# Altium footprint library BioZ.PcbLib: 32 footprints (part 2 of 2)
Each footprint in its own frame and in the unit in brackets; x right, y up, seen from the top. Pads: shape width x height; smd on the part's side, far side on the other; paste and mask are expansions set on the pad; w line width, h text height; cw(c..) or ccw(c..) is an arc to the next point about the centre after c.
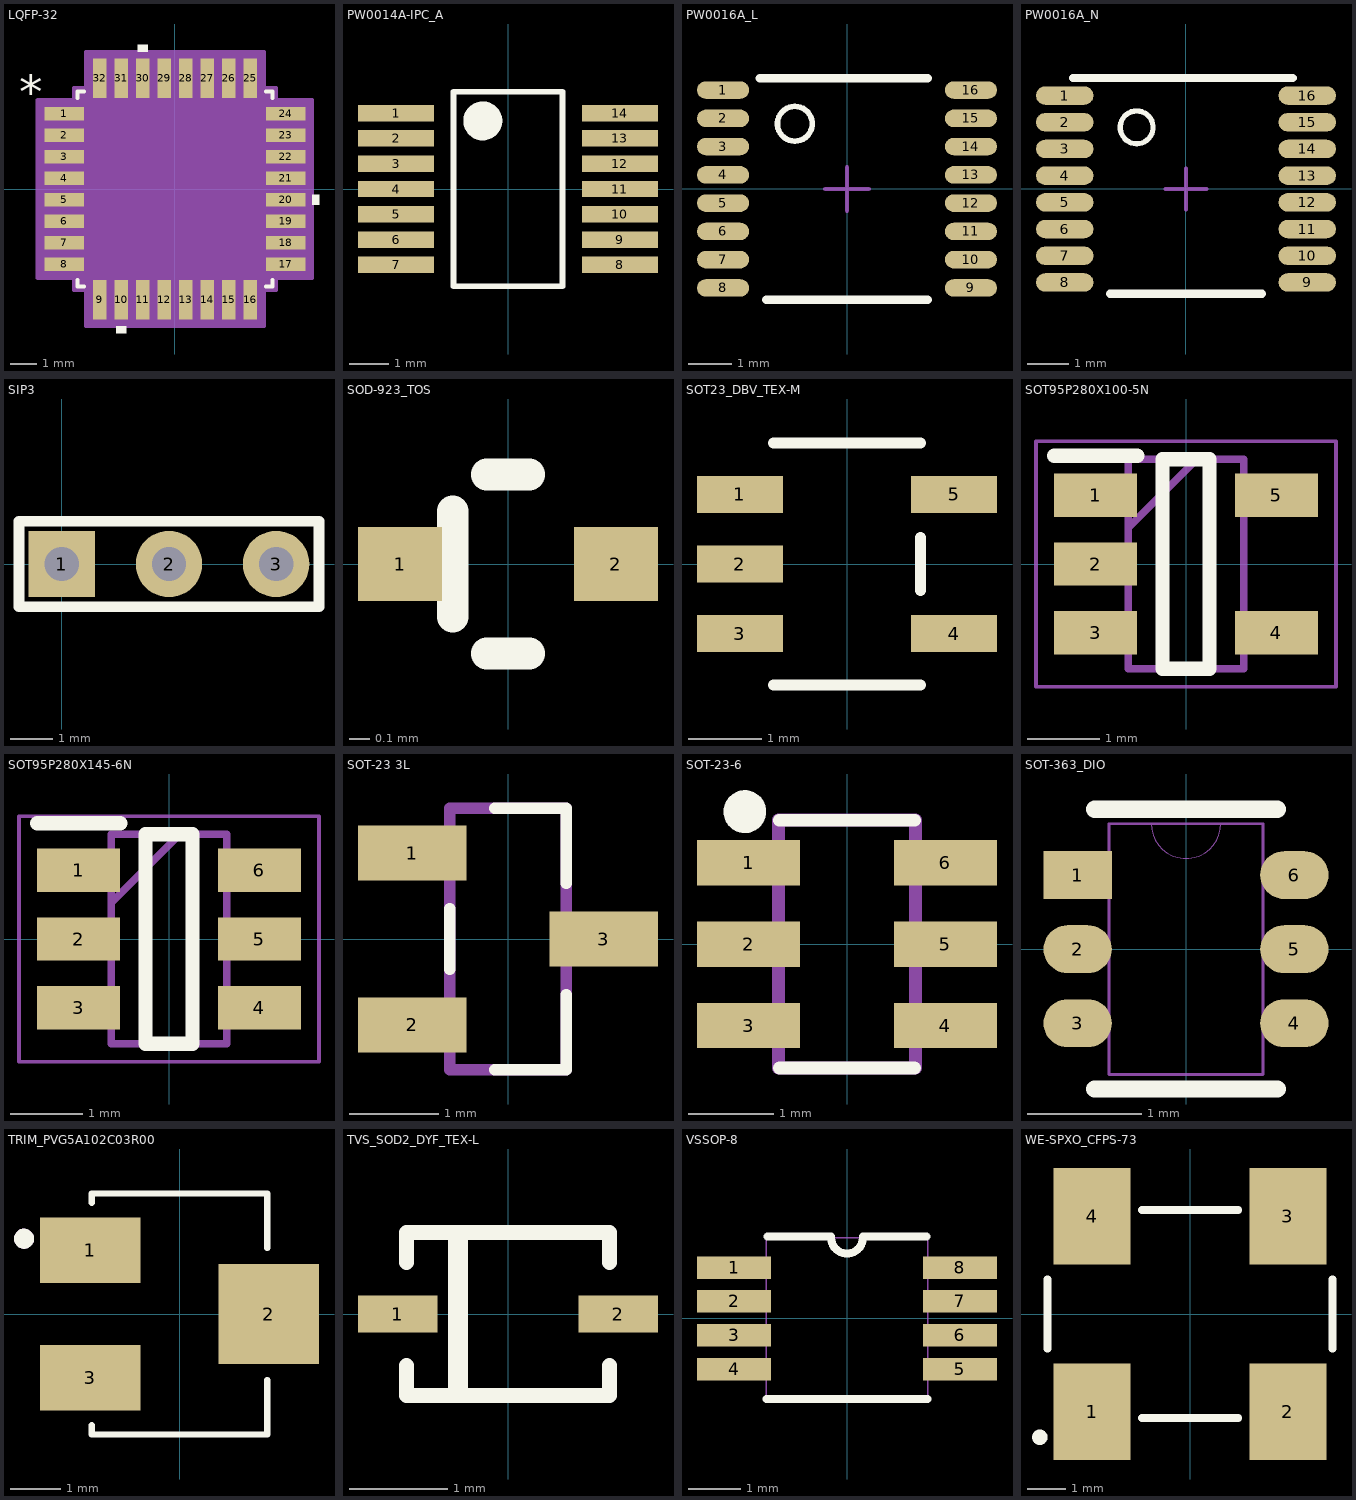
[diagram p1: the footprints below, top view; thin cyan lines are the x and y axes]

## LQFP-32 [mil]
pads (32):
  rect 58x20 smd paste+0 mask+0: 1(-162,110.24) 2(-162,78.74) 3(-162,47.24) 4(-162,15.75) 5(-162,-15.75) 6(-162,-47.24) 7(-162,-78.74) 8(-162,-110.24) 17(162,-110.24) 18(162,-78.74) 19(162,-47.24) 20(162,-15.75) 21(162,15.75) 22(162,47.24) 23(162,78.74) 24(162,110.24)
  rect 20x58 smd paste+0 mask+0: 9(-110.24,-162) 10(-78.74,-162) 11(-47.24,-162) 12(-15.75,-162) 13(15.75,-162) 14(47.24,-162) 15(78.74,-162) 16(110.24,-162) 25(110.24,162) 26(78.74,162) 27(47.24,162) 28(15.75,162) 29(-15.75,162) 30(-47.24,162) 31(-78.74,162) 32(-110.24,162)
Top Overlay:
  region: -39.74,201 -54.74,201 -54.74,211 -39.74,211
  region: 201,-8.25 211,-8.25 211,-23.25 201,-23.25
  region: -71.24,-201 -86.24,-201 -86.24,-211 -71.24,-211
  lines w6: -143,-133.34 -143,-143 -133.34,-143 ; -143,133.34 -143,143 -133.34,143 ; 133.34,-143 143,-143 143,-133.34 ; 133.34,143 143,143 143,133.34
  text ".Designator" at -137.5,-25 h50
  text "*" at -228.5,115.98 h50
Mechanical 13:
  lines w1: -138,88 -88,138 ; -177,-119.24 -138,-119.24 -138,-101.24 -177,-101.24 -177,-119.24 ; -177,-87.74 -138,-87.74 -138,-69.74 -177,-69.74 -177,-87.74 ; -177,-56.24 -138,-56.24 -138,-38.24 -177,-38.24 -177,-56.24 ; -177,-24.75 -138,-24.75 -138,-6.75 -177,-6.75 -177,-24.75 ; -177,6.75 -138,6.75 -138,24.75 -177,24.75 -177,6.75 ; -177,38.24 -138,38.24 -138,56.24 -177,56.24 -177,38.24 ; -177,69.74 -138,69.74 -138,87.74 -177,87.74 -177,69.74 ; -177,101.24 -138,101.24 -138,119.24 -177,119.24 -177,101.24 ; -138,-138 -138,138 138,138 138,-138 -138,-138 ; -119.24,-177 -101.24,-177 -101.24,-138 -119.24,-138 -119.24,-177 ; -119.24,138 -119.24,177 -101.24,177 -101.24,138 -119.24,138 ; -87.74,-177 -69.74,-177 -69.74,-138 -87.74,-138 -87.74,-177 ; -87.74,138 -87.74,177 -69.74,177 -69.74,138 -87.74,138 ; -56.24,-177 -38.24,-177 -38.24,-138 -56.24,-138 -56.24,-177 ; -56.24,138 -56.24,177 -38.24,177 -38.24,138 -56.24,138 ; -24.75,-177 -6.75,-177 -6.75,-138 -24.75,-138 -24.75,-177 ; -24.75,138 -24.75,177 -6.75,177 -6.75,138 -24.75,138 ; 6.75,-177 24.75,-177 24.75,-138 6.75,-138 6.75,-177 ; 6.75,138 6.75,177 24.75,177 24.75,138 6.75,138 ; 38.24,-177 56.24,-177 56.24,-138 38.24,-138 38.24,-177 ; 38.24,138 38.24,177 56.24,177 56.24,138 38.24,138 ; 69.74,-177 87.74,-177 87.74,-138 69.74,-138 69.74,-177 ; 69.74,138 69.74,177 87.74,177 87.74,138 69.74,138 ; 101.24,-177 119.24,-177 119.24,-138 101.24,-138 101.24,-177 ; 101.24,138 101.24,177 119.24,177 119.24,138 101.24,138 ; 138,-119.24 177,-119.24 177,-101.24 138,-101.24 138,-119.24 ; 138,-87.74 177,-87.74 177,-69.74 138,-69.74 138,-87.74 ; 138,-56.24 177,-56.24 177,-38.24 138,-38.24 138,-56.24 ; 138,-24.75 177,-24.75 177,-6.75 138,-6.75 138,-24.75 ; 138,6.75 177,6.75 177,24.75 138,24.75 138,6.75 ; 138,38.24 177,38.24 177,56.24 138,56.24 138,38.24 ; 138,69.74 177,69.74 177,87.74 138,87.74 138,69.74 ; 138,101.24 177,101.24 177,119.24 138,119.24 138,101.24
  text "*" at -135.5,100.98 h50
  text ".Designator" at -137.5,-25 h50
Mechanical 15:
  region: -130.24,-148 -148,-148 -148,-130.24 -201,-130.24 -201,130.24 -148,130.24 -148,148 -130.24,148 -130.24,201 130.24,201 130.24,148 148,148 148,130.24 201,130.24 201,-130.24 148,-130.24 148,-148 130.24,-148 130.24,-201 -130.24,-201
  lines w6: -201,-130.24 -201,130.24 -148,130.24 -148,148 -130.24,148 -130.24,201 130.24,201 130.24,148 148,148 148,130.24 201,130.24 201,-130.24 148,-130.24 148,-148 130.24,-148 130.24,-201 -130.24,-201 -130.24,-148 -148,-148 -148,-130.24 -201,-130.24
3D body "LQFP-32.step": height 63.11, standoff 0, extent -177.01,-177.01 177.01,177.01

## PW0014A-IPC_A [mm]
pads (14):
  rect 1.955x0.421 smd paste+0 mask+0: 1(-2.875,1.95) 2(-2.875,1.3) 3(-2.875,0.65) 4(-2.875,0) 5(-2.875,-0.65) 6(-2.875,-1.3) 7(-2.875,-1.95) 8(2.875,-1.95) 9(2.875,-1.3) 10(2.875,-0.65) 11(2.875,0) 12(2.875,0.65) 13(2.875,1.3) 14(2.875,1.95)
Top Overlay:
  circle w0.5: c-0.648,1.75 r0.25
  lines w0.15: -1.398,-2.5 -1.398,2.5 1.398,2.5 1.398,-2.5 -1.398,-2.5
3D body "PW0014A.stp": height 1.13, standoff 0, extent -3.2,-2.5 3.2,2.5

## PW0016A_L [mm]
pads (16):
  oval 1.2x0.4 smd paste+0 mask+0.051: 1(-2.85,2.275) 2(-2.85,1.625) 3(-2.85,0.975) 4(-2.85,0.325) 5(-2.85,-0.325) 6(-2.85,-0.975) 7(-2.85,-1.625) 8(-2.85,-2.275) 9(2.85,-2.275) 10(2.85,-1.625) 11(2.85,-0.975) 12(2.85,-0.325) 13(2.85,0.325) 14(2.85,0.975) 15(2.85,1.625) 16(2.85,2.275)
Top Overlay:
  lines w0.127: -1.2,1.1 cw(c-1.2,1.5) -1.2,1.9 cw(c-1.2,1.5) -1.2,1.1
  lines w0.2: -2,2.55 1.85,2.55 ; -1.85,-2.55 1.85,-2.55
Mechanical 15:
  lines w0.1: -0.5,0 0.5,0 ; 0,-0.5 0,0.5
3D body "PW0016A.stp": height 1.13, standoff 0, extent -3.2,-2.5 3.2,2.5

## PW0016A_N [mm]
pads (16):
  oval 1.4x0.45 smd paste+0 mask+0.051: 1(-2.95,2.275) 2(-2.95,1.625) 3(-2.95,0.975) 4(-2.95,0.325) 5(-2.95,-0.325) 6(-2.95,-0.975) 7(-2.95,-1.625) 8(-2.95,-2.275) 9(2.95,-2.275) 10(2.95,-1.625) 11(2.95,-0.975) 12(2.95,-0.325) 13(2.95,0.325) 14(2.95,0.975) 15(2.95,1.625) 16(2.95,2.275)
Top Overlay:
  lines w0.127: -1.2,1.1 ccw(c-1.2,1.5) -1.2,1.9 ccw(c-1.2,1.5) -1.2,1.1
  lines w0.2: -2.75,2.7 2.6,2.7 ; -1.85,-2.55 1.85,-2.55
Mechanical 15:
  lines w0.1: -0.5,0 0.5,0 ; 0,-0.5 0,0.5
3D body "PW0016A.stp": height 1.13, standoff 0, extent -3.2,-2.5 3.2,2.5

## SIP3 [mil]
pads (3):
  rect 62x62 hole 32: 1(0,0)
  round 62 hole 32: 2(100,0) 3(200,0)
Top Overlay:
  lines w10: -40,-40 240,-40 240,-20 240,20 240,40 -40,40 -40,-40
3D body "68001-203HLF.STEP": height 329.92, standoff -120.08, extent -50,-47.44 250,47.44

## SOD-923_TOS [mil]
pads (2):
  rect 16x14 smd paste+0 mask+0: 1(-20.5,0) 2(20.5,0)
Top Overlay:
  lines w6: -10.5,-10 -10.5,10.04 ; -4.04,-17 4.04,-17 ; -4.04,17 4.04,17
3D body "SOD-923-ZKN_r.stp": height 15.75, standoff 0, extent -19.68,-11.81 19.68,11.81

## SOT23_DBV_TEX-M [mil]
pads (5):
  rect 46.15x20 smd paste+0 mask+0: 1(-57.58,37.4) 2(-57.58,0) 3(-57.58,-37.4) 4(57.58,-37.4) 5(57.58,37.4)
Top Overlay:
  lines w6: -39.5,-65 39.5,-65 ; -39.5,65 39.5,65 ; 39.5,-14.3 39.5,14.3
3D body "DBV0005A.stp": height 47.24, standoff 0, extent -55.12,-57.09 55.12,57.09

## SOT95P280X100-5N [mm]
pads (5):
  rect 1.15x0.6 smd: 1(-1.25,0.95) 2(-1.25,0) 3(-1.25,-0.95) 4(1.25,-0.95) 5(1.25,0.95)
Top Overlay:
  lines w0.2: -1.825,1.5 -0.675,1.5 ; -0.325,-1.45 -0.325,1.45 0.325,1.45 0.325,-1.45 -0.325,-1.45
Mechanical 15:
  lines w0.1: -0.8,0.5 0.15,1.45 ; -0.8,-1.45 -0.8,1.45 0.8,1.45 0.8,-1.45 -0.8,-1.45
Mechanical 20:
  lines w0.05: -2.075,-1.7 -2.075,1.7 2.075,1.7 2.075,-1.7 -2.075,-1.7
3D body "ADP121-AUJZ15R7.stp": height 1, standoff 0, extent -1.4,-1.45 1.4,1.45

## SOT95P280X145-6N [mm]
pads (6):
  rect 1.15x0.6 smd: 1(-1.25,0.95) 2(-1.25,0) 3(-1.25,-0.95) 4(1.25,-0.95) 5(1.25,0) 6(1.25,0.95)
Top Overlay:
  lines w0.2: -1.825,1.6 -0.675,1.6 ; -0.325,-1.45 -0.325,1.45 0.325,1.45 0.325,-1.45 -0.325,-1.45
Mechanical 15:
  lines w0.1: -0.8,0.5 0.15,1.45 ; -0.8,-1.45 -0.8,1.45 0.8,1.45 0.8,-1.45 -0.8,-1.45
Mechanical 20:
  lines w0.05: -2.075,-1.7 -2.075,1.7 2.075,1.7 2.075,-1.7 -2.075,-1.7
3D body "DBV0006A.stp": height 1.2, standoff 0, extent -1.4,-1.45 1.4,1.45

## SOT-23 3L [mm]
height 1.22
pads (3):
  rect 1.21x0.61 smd: 1(-1.07,0.96) 2(-1.07,-0.96) 3(1.07,0)
Top Overlay:
  lines w0.127: -0.65,-0.34 -0.65,0.34 ; -0.15,-1.46 0.65,-1.46 0.65,-0.62 ; -0.15,1.46 0.65,1.46 0.65,0.62
Mechanical 13:
  lines w0.127: -0.65,-1.46 -0.65,1.46 0.65,1.46 0.65,-1.46 -0.65,-1.46
3D body "step_temp.STEP": height 1.22, standoff 0, extent -1.185,-1.46 1.185,1.46

## SOT-23-6 [mm]
pads (6):
  rect 1.205x0.53 smd paste+0 mask+0: 1(-1.15,0.95) 2(-1.15,0) 3(-1.15,-0.95) 4(1.15,-0.95) 5(1.15,0) 6(1.15,0.95)
Top Overlay:
  circle w0.25: c-1.194,1.549 r0.125
  lines w0.15: -0.787,-1.448 0.787,-1.448 ; -0.787,1.448 0.787,1.448
Mechanical 13:
  lines w0.15: -0.8,-1.448 -0.8,1.45 0.8,1.45 0.8,-1.448 -0.8,-1.448
3D body "DBV0006A.stp": height 1.2, standoff 0, extent -1.4,-1.45 1.4,1.45

## SOT-363_DIO [mm]
pads (6):
  rect 0.6x0.42 smd paste+0 mask+0: 1(-0.95,0.65)
  oval 0.6x0.42 smd paste+0 mask+0: 2(-0.95,0) 3(-0.95,-0.65) 4(0.95,-0.65) 5(0.95,0) 6(0.95,0.65)
Top Overlay:
  lines w0.152: -0.802,-1.227 0.802,-1.227 ; -0.802,1.227 0.802,1.227
Mechanical 13:
  lines w0: -0.305,1.1 ccw(c0,1.1) 0.305,1.1
  lines w0.025: -0.675,-1.1 0.675,-1.1 0.675,1.1 -0.675,1.1 -0.675,-1.1
3D body "SOT-363_DIO.step": height 1, standoff 0, extent -0.9,-1.1 0.9,1.1

## TRIM_PVG5A102C03R00 [mm]
height 5.3
pads (3):
  rect 2x1.3 smd: 1(-1.778,1.27) 3(-1.778,-1.27)
  rect 2x2 smd: 2(1.778,0)
Top Overlay:
  circle w0.2: c-3.1,1.5 r0.1
  lines w0.127: -1.75,-2.215 -1.75,-2.4 1.75,-2.4 1.75,-1.315 ; -1.75,2.215 -1.75,2.4 1.75,2.4 1.75,1.315
Mechanical 13:
  circle w0.2: c-3.1,1.5 r0.1
3D body "PVG5A102C03R00.STEP": height 5.3, standoff 0, extent -1.95,-2.4 1.95,2.4

## TVS_SOD2_DYF_TEX-L [mm]
pads (2):
  rect 0.806x0.376 smd paste+0 mask+0: 1(-1.118,0) 2(1.118,0)
Top Overlay:
  lines w0.152: -1.029,-0.521 -1.029,-0.826 1.029,-0.826 1.029,-0.521 ; -1.029,0.521 -1.029,0.826 1.029,0.826 1.029,0.521
  lines w0.2: -0.508,-0.762 -0.508,0.762
3D body "DYF0002A.stp": height 0.9, standoff 0, extent -1.274,-0.694 1.376,0.606

## VSSOP-8 [mil]
pads (8):
  rect 56x17 smd paste-28 mask-28: 1(-85.5,38.39) 2(-85.5,12.8) 3(-85.5,-12.8) 4(-85.5,-38.39) 5(85.5,-38.39) 6(85.5,-12.8) 7(85.5,12.8) 8(85.5,38.39)
Top Overlay:
  lines w6: -61,-61 61,-61 ; -60,62 -12,62 ; -12,61 ccw(c0,61) 12,61 ; 12,62 60,62
Mechanical 13:
  lines w1: -12,61 ccw(c0,61) 12,61 ; -99.5,-45.89 -99.5,-30.89 -61,-30.89 -61,-45.89 -99.5,-45.89 ; -99.5,-20.3 -99.5,-5.3 -61,-5.3 -61,-20.3 -99.5,-20.3 ; -99.5,5.3 -99.5,20.3 -61,20.3 -61,5.3 -99.5,5.3 ; -99.5,30.89 -99.5,45.89 -61,45.89 -61,30.89 -99.5,30.89 ; -61,-61 61,-61 61,61 -61,61 -61,-61 ; 61,-45.89 61,-30.89 99.5,-30.89 99.5,-45.89 61,-45.89 ; 61,-20.3 61,-5.3 99.5,-5.3 99.5,-20.3 61,-20.3 ; 61,5.3 61,20.3 99.5,20.3 99.5,5.3 61,5.3 ; 61,30.89 61,45.89 99.5,45.89 99.5,30.89 61,30.89
3D body "DGK8.step": height 43.11, standoff 0, extent -99.49,-60.98 99.49,60.98

## WE-SPXO_CFPS-73 [mm]
pads (4):
  rect 2x2.5 smd paste+0.017 mask+0.102: 1(-2.54,-2.54)
  rect 2x2.5 smd paste+0 mask+0.102: 2(2.54,-2.54) 3(2.54,2.54) 4(-2.54,2.54)
Top Overlay:
  circle w0.2: c-3.9,-3.2 r0.1
  lines w0.2: -3.7,-0.9 -3.7,0.9 ; -1.25,-2.7 1.25,-2.7 ; -1.25,2.7 1.25,2.7 ; 3.7,-0.9 3.7,0.9
3D body "Download_STP_831018043+%28rev1%29.stp": height 1.35, standoff 0, extent -3.6,-2.62 3.6,2.58